# Altium footprint library ACS_Board_Components.PcbLib: 3 footprints
Each footprint in its own frame and in the unit in brackets; x right, y up, seen from the top. Pads: shape width x height; smd on the part's side, far side on the other; paste and mask are expansions set on the pad; w line width, h text height; cw(c..) or ccw(c..) is an arc to the next point about the centre after c.
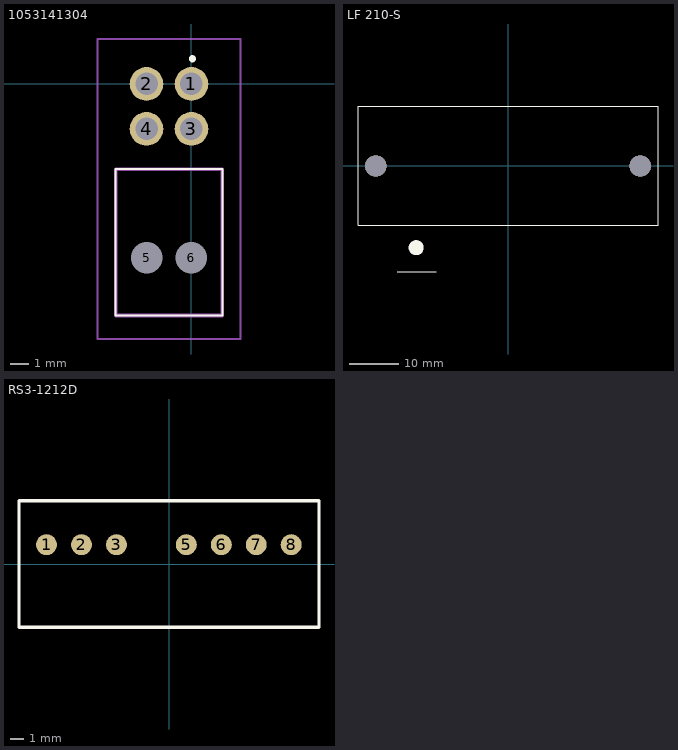
[diagram p0: the footprints below, top view; thin cyan lines are the x and y axes]

## 1053141304 [mm]
pads (6):
  round 1.875 hole 1.25: 1(0,0) 2(-2.5,0) 3(0,-2.5) 4(-2.5,-2.5)
  round 0.875 hole 1.75: 5(-2.5,-9.68) 6(0,-9.68)
Top Overlay:
  lines w0.1: -4.22,-12.88 -4.22,-4.74 -2.735,-4.74 0.235,-4.74 1.72,-4.74 1.72,-12.88 -4.22,-12.88
  lines w0.2: -0.05,1.4 ccw(c0.05,1.4) 0.15,1.4 ccw(c0.05,1.4) -0.05,1.4
Mechanical 13:
  lines w0.2: -4.22,-12.88 -4.22,-4.74 1.72,-4.74 1.72,-12.88 -4.22,-12.88
Mechanical 15:
  lines w0.1: -5.22,-14.19 -5.22,2.5 2.72,2.5 2.72,-14.19 -5.22,-14.19
3D body "1053141304.stp": height 9.35, standoff -2.99, extent -4.24,-14.326 1.7,0.332

## LF 210-S [mm]
via 26.9,0 diameter 4.3 hole 4.3
via -26.9,0 diameter 4.3 hole 4.3
Top Overlay:
  circle w1.524: c-18.669,-16.637 r0.762
  lines w0.254: -22.479,-21.5 -14.605,-21.5 ; 8.636,12.1 30.5,12.1 30.5,-12.1 -30.5,-12.1 -30.5,12.1 8.636,12.1 ; 8.636,12.1 8.636,12.1
3D body "LF_210-S.stp": height 51.14, standoff 0.39, extent -30.5,-21.401 30.5,12.188

## RS3-1212D [mm]
pads (7):
  round 1.524 hole 0.029: 1(-8.9,1.4) 2(-6.36,1.4) 3(-3.82,1.4) 5(1.26,1.4) 6(3.8,1.4) 7(6.34,1.4) 8(8.88,1.4)
Top Overlay:
  lines w0.254: -10.9,-4.6 10.9,-4.6 10.9,4.6 -10.9,4.6 -10.9,-4.6